# Altium footprint library CloudTainer.PcbLib: 17 footprints (part 1 of 2)
Each footprint in its own frame and in the unit in brackets; x right, y up, seen from the top. Pads: shape width x height; smd on the part's side, far side on the other; paste and mask are expansions set on the pad; w line width, h text height; cw(c..) or ccw(c..) is an arc to the next point about the centre after c.
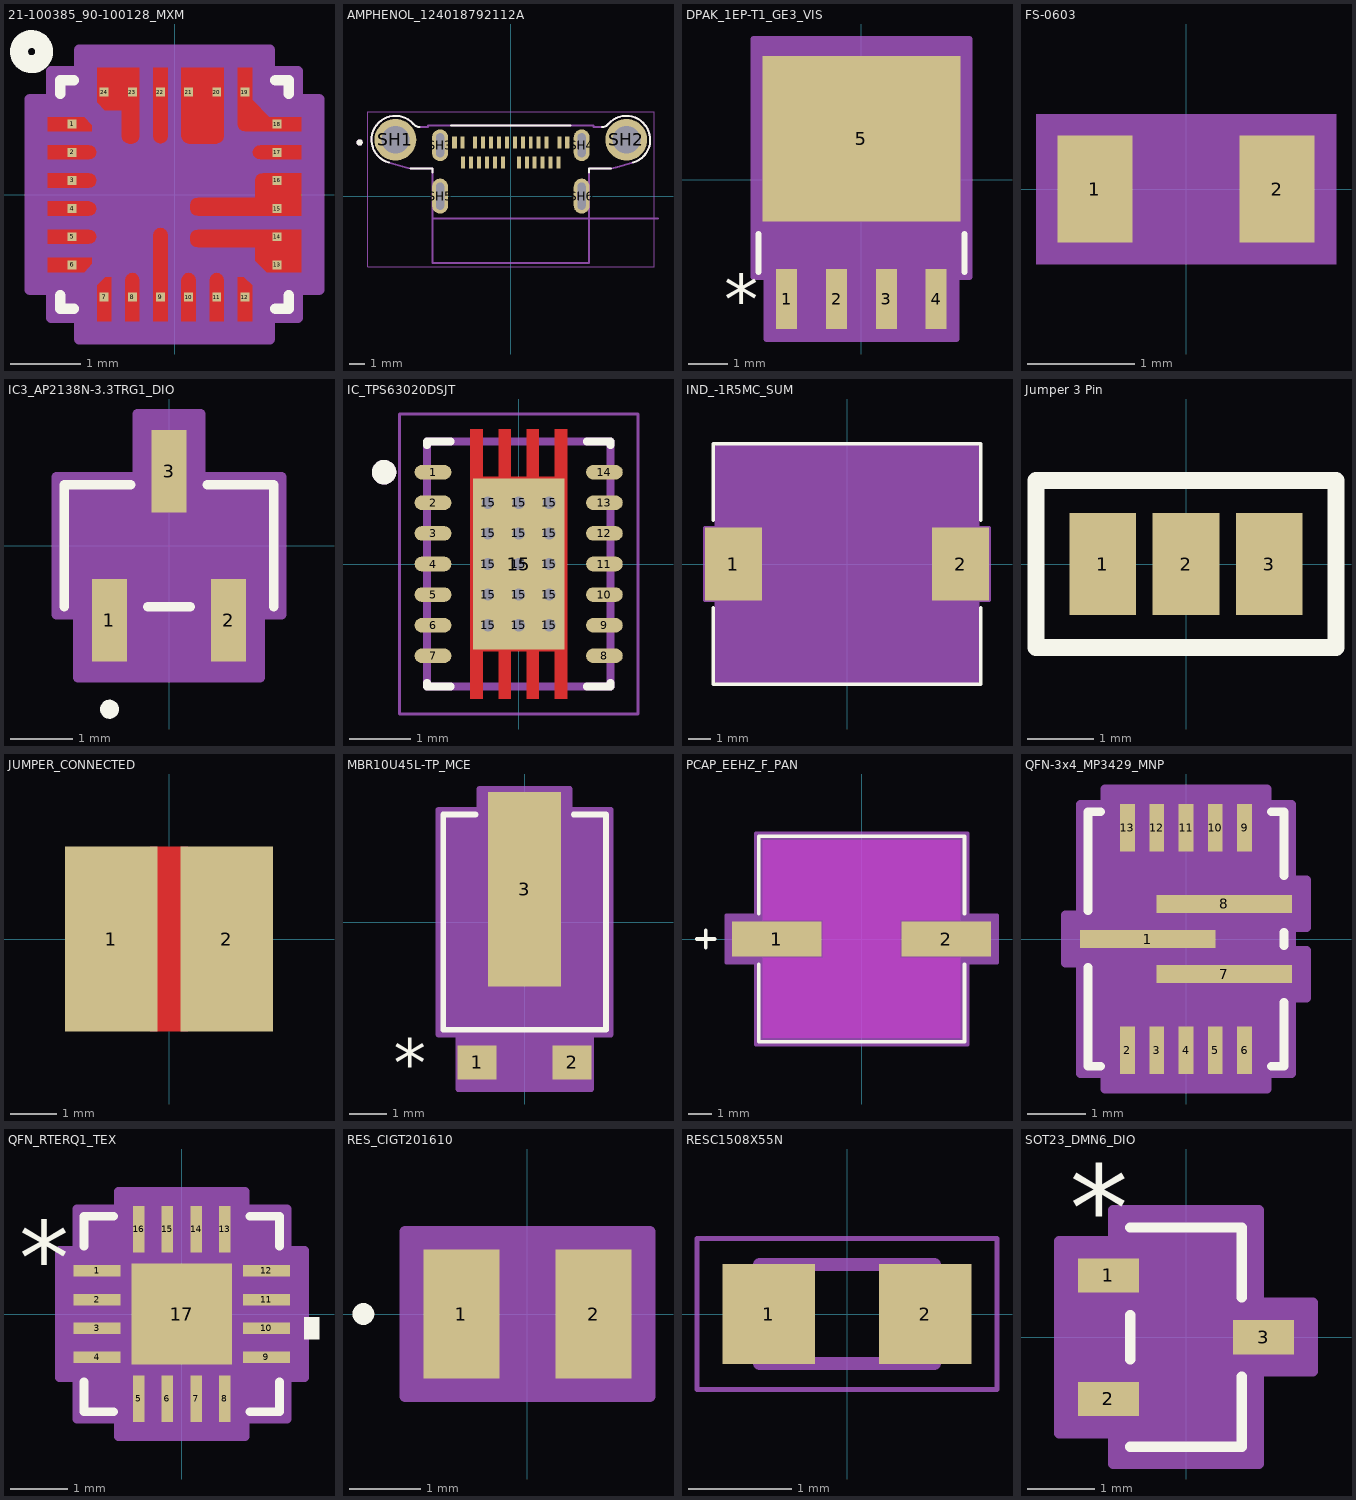
[diagram p0: the footprints below, top view; thin cyan lines are the x and y axes]

## 21-100385_90-100128_MXM [mil]
pads (24):
  rect 5x5 smd paste-2.5 mask-2.5: 1(-57.36,39.37) 2(-57.36,23.62) 3(-57.36,7.87) 4(-57.36,-7.87) 5(-57.36,-23.62) 6(-57.36,-39.37) 7(-39.37,-57.36) 8(-23.62,-57.36) 9(-7.87,-57.36) 10(7.87,-57.36) 11(23.62,-57.36) 12(39.37,-57.36) 13(57.36,-39.37) 14(57.36,-23.62) 15(57.36,-7.87) 16(57.36,7.87) 17(57.36,23.62) 18(57.36,39.37) 19(39.37,57.36) 20(23.62,57.36) 21(7.87,57.36) 22(-7.87,57.36) 23(-23.62,57.36) 24(-39.37,57.36)
Top Layer:
  region: -70.86,-35.37 -46.26,-35.37 -46.26,-38.83 -50.67,-43.37 -70.86,-43.37
  region: 35.37,43.86 35.37,70.86 43.37,70.86 43.37,53.15 53.15,43.37 70.86,43.37 70.86,35.37 43.86,35.37 39.41,35.37 37.88,35.67 36.59,36.54 35.72,37.84 35.41,39.37
  region: 49.26,11.87 70.86,11.87 70.86,-11.87 12.88,-11.87 11.35,-11.57 10.05,-10.7 9.18,-9.4 8.88,-7.87 8.88,-5.87 9.18,-4.34 10.05,-3.04 11.35,-2.17 12.88,-1.87 45.27,-1.87 45.26,7.87 45.56,9.4 46.43,10.7 47.73,11.57
  region: 51.65,-43.37 70.86,-43.37 70.86,-19.62 12.88,-19.62 11.35,-19.93 10.05,-20.79 9.18,-22.09 8.88,-23.62 8.88,-25.63 9.18,-27.16 10.05,-28.46 11.35,-29.33 12.88,-29.63 45.27,-29.62 45.27,-36.99
  region: -43.37,51.65 -43.37,70.86 -19.62,70.86 -19.62,32.56 -19.93,31.03 -20.79,29.73 -22.09,28.87 -23.62,28.56 -25.63,28.56 -27.16,28.87 -28.46,29.73 -29.33,31.03 -29.63,32.56 -29.62,47.24 -38.96,47.24
  region: 3.87,32.56 3.87,70.86 27.62,70.86 27.62,32.56 27.32,31.03 26.45,29.73 25.15,28.87 23.62,28.56 7.87,28.56 6.34,28.87 5.05,29.73 4.18,31.03
  region: 47.88,19.62 70.86,19.62 70.86,27.62 47.88,27.62 46.35,27.32 45.05,26.45 44.18,25.15 43.88,23.62 44.18,22.09 45.05,20.79 46.35,19.93
  region: -47.88,-19.62 -70.86,-19.62 -70.86,-27.62 -47.88,-27.62 -46.35,-27.32 -45.05,-26.45 -44.18,-25.15 -43.88,-23.62 -44.18,-22.09 -45.05,-20.79 -46.35,-19.93
  region: -47.88,-3.87 -70.86,-3.87 -70.86,-11.87 -47.88,-11.87 -46.35,-11.57 -45.05,-10.7 -44.18,-9.4 -43.88,-7.87 -44.18,-6.34 -45.05,-5.05 -46.35,-4.18
  region: -47.88,11.87 -70.86,11.87 -70.86,3.87 -47.88,3.87 -46.35,4.18 -45.05,5.05 -44.18,6.34 -43.88,7.87 -44.18,9.4 -45.05,10.7 -46.35,11.57
  region: -47.88,27.62 -70.86,27.62 -70.86,19.62 -47.88,19.62 -46.35,19.93 -45.05,20.79 -44.18,22.09 -43.88,23.62 -44.18,25.15 -45.05,26.45 -46.35,27.32
  region: -35.37,-70.86 -35.37,-46.26 -38.83,-46.26 -43.37,-50.67 -43.37,-70.86
  region: -70.86,35.37 -46.26,35.37 -46.26,38.83 -50.67,43.37 -70.86,43.37
  region: 35.37,-70.86 35.37,-46.26 38.83,-46.26 43.37,-50.67 43.37,-70.86
  region: -70.86,-35.37 -46.26,-35.37 -46.26,-38.83 -50.67,-43.37 -70.86,-43.37
  region: -3.87,32.56 -3.87,70.86 -11.87,70.86 -11.87,32.56 -11.57,31.03 -10.7,29.73 -9.4,28.87 -7.87,28.56 -6.34,28.87 -5.05,29.73 -4.18,31.03
  region: -11.87,-22.68 -11.87,-70.86 -3.87,-70.86 -3.87,-22.68 -4.18,-21.15 -5.05,-19.85 -6.34,-18.99 -7.87,-18.68 -9.4,-18.99 -10.7,-19.85 -11.57,-21.15
  region: 19.62,-47.88 19.62,-70.86 27.62,-70.86 27.62,-47.88 27.32,-46.35 26.45,-45.05 25.15,-44.18 23.62,-43.88 22.09,-44.18 20.79,-45.05 19.93,-46.35
  region: 3.87,-47.88 3.87,-70.86 11.87,-70.86 11.87,-47.88 11.57,-46.35 10.7,-45.05 9.4,-44.18 7.87,-43.88 6.34,-44.18 5.05,-45.05 4.18,-46.35
  region: -27.62,-47.88 -27.62,-70.86 -19.62,-70.86 -19.62,-47.88 -19.93,-46.35 -20.79,-45.05 -22.09,-44.18 -23.62,-43.88 -25.15,-44.18 -26.45,-45.05 -27.32,-46.35
Top Overlay:
  circle w10: c-80,80 r7.07
  lines w6: -64,-56.47 -64,-64 -56.47,-64 ; -64,56.47 -64,64 -56.47,64 ; 56.47,-64 64,-64 64,-56.47 ; 56.47,64 64,64 64,56.47
Top Paste:
  drawing of 19 lines, arcs and shapes, not listed
Top Solder:
  drawing of 19 lines, arcs and shapes, not listed
Mechanical 13:
  lines w1: -59,9 -9,59 ; -59,-59 -59,59 59,59 59,-59 -59,-59
Mechanical 15:
  region: 53.37,80.86 -53.37,80.86 -53.37,69 -69,69 -69,53.37 -80.86,53.37 -80.86,-53.37 -69,-53.37 -69,-69 -53.37,-69 -53.37,-80.86 53.37,-80.86 53.37,-69 69,-69 69,-53.37 80.86,-53.37 80.86,53.37 69,53.37 69,69 53.37,69
  lines w6: -80.86,-53.37 -69,-53.37 -69,-69 -53.37,-69 -53.37,-80.86 53.37,-80.86 53.37,-69 69,-69 69,-53.37 80.86,-53.37 80.86,53.37 69,53.37 69,69 53.37,69 53.37,80.86 -53.37,80.86 -53.37,69 -69,69 -69,53.37 -80.86,53.37 -80.86,-53.37
3D body "MAXIM_90-100128.step": height 23.66, standoff 0, extent -61.43,-61.43 60.94,60.94

## AMPHENOL_124018792112A [mm]
pads (32):
  rect 0.25x0.75 smd: A1(-3.05,3.375) A2(-2.25,3.375) A3(-1.75,3.375) A4(-1.25,3.375) A5(-0.75,3.375) A6(-0.25,3.375) A7(0.25,3.375) A8(0.75,3.375) A9(1.25,3.375) A10(1.75,3.375) A11(2.25,3.375) A12(3.05,3.375) B1(3,2.125) B2(2.5,2.125) B3(2,2.125) B4(1.5,2.125) B5(1,2.125) B6(0.5,2.125) B7(-0.5,2.125) B8(-1,2.125) B9(-1.5,2.125) B10(-2,2.125) B11(-2.5,2.125) B12(-3,2.125)
  round 2.625 hole 1.75: SH1(-7.26,3.55) SH2(7.26,3.55)
  oval 1x2 hole 0.5 slot 1.5 at 90 deg: SH3(-4.45,3.2) SH4(4.45,3.2)
  oval 1x2.2 hole 0.5 slot 1.7 at 90 deg: SH5(-4.45,0) SH6(4.45,0)
  rect 0.3x0.75 smd: SH7(-3.55,3.375) SH8(3.55,3.375)
Top Overlay:
  circle w0.2: c-9.51,3.375 r0.1
  lines w0.127: -7.673,2.108 cw(c-7.26,3.55) -6.128,4.534 ; -6.3,1.75 -4.925,1.75 -4.925,1.5 ; -6.117,4.522 ccw(c-5.74,4.85) -5.74,4.35 ; -3.75,4.45 3.75,4.45 ; 4.925,1.5 4.925,1.75 6.3,1.75 ; 5.74,4.35 ccw(c5.74,4.85) 6.117,4.522 ; 6.128,4.534 cw(c7.26,3.55) 7.673,2.108
Mechanical 13:
  circle w0.2: c-9.51,3.375 r0.1
  lines w0.127: -7.685,2.111 -6.599,1.791 ; -7.673,2.108 cw(c-7.26,3.55) -6.128,4.534 ; -6.591,1.789 ccw(c-6.316,2.75) -6.316,1.75 -4.925,1.75 -4.925,-4.2 4.925,-4.2 4.925,1.75 6.316,1.75 ccw(c6.316,2.75) 6.591,1.789 ; -6.117,4.522 ccw(c-5.74,4.85) -5.74,4.35 -5.205,4.35 -5.205,4.45 5.205,4.45 5.205,4.35 5.74,4.35 ccw(c5.74,4.85) 6.117,4.522 ; -4.925,-1.4 9.25,-1.4 ; -2.865,-4.2 2.865,-4.2 ; 6.128,4.534 cw(c7.26,3.55) 7.673,2.108 ; 6.599,1.791 7.685,2.111
  text "PCB Edge" at 5.4,-1.2 h0.9
Mechanical 15:
  lines w0.05: -9.01,-4.45 9.01,-4.45 9.01,5.3 -9.01,5.3 -9.01,-4.45
3D body "step_temp.STEP": height 3.53, standoff -0.53, extent -8.759,-4.2 8.759,5.047

## DPAK_1EP-T1_GE3_VIS [mil]
pads (5):
  rect 21x60 smd paste+0 mask+0: 1(-75,-120) 2(-25,-120) 3(25,-120) 4(75,-120)
  rect 199x166.19 smd paste+0 mask+0: 5(0,40.91)
Top Overlay:
  lines w6: -103.5,-93 -103.5,-54.66 ; 103.5,-93 103.5,-54.66
  text "*" at -137.5,-145 h50
Mechanical 13:
  lines w1: -98.5,-88 98.5,-88 98.5,88 -98.5,88 -98.5,-88 ; -84.5,-136 -84.5,-88 -65.5,-88 -65.5,-136 -84.5,-136 ; -34.5,-136 -34.5,-88 -15.5,-88 -15.5,-136 -34.5,-136 ; 15.5,-136 15.5,-88 34.5,-88 34.5,-136 15.5,-136 ; 65.5,-136 65.5,-88 84.5,-88 84.5,-136 65.5,-136
  text "*" at -87.5,-103 h50
Mechanical 15:
  region: -108.5,-98 -108.5,98 -108.5,141 108.5,141 108.5,98 108.5,-98 95.5,-98 95.5,-160 -95.5,-160 -95.5,-98
  lines w6: -108.5,-98 -108.5,98 -108.5,141 108.5,141 108.5,98 108.5,-98 95.5,-98 95.5,-160 -95.5,-160 -95.5,-98 -108.5,-98
3D body "DPAK_1EP-T1_GE3_VIS.step": height 47.63, standoff 0.5, extent -98.5,-135.98 98.5,110

## FS-0603 [mm]
pads (2):
  rect 0.7x1 smd: 1(-0.85,0) 2(0.85,0)
Mechanical 19:
  text "1" at -0.85,0.08 h0.2
  text "2" at 0.85,0.08 h0.2
Top Assembly:
  dashed: -1.4,-0.7 -1.4,0.7 1.4,0.7 1.4,-0.7
  pour cut-out: 1.2,-0.5 -1.2,-0.5 -1.2,0.5 1.2,0.5
3D body "FS-0603.stp": height 0.86, standoff 0, extent -0.8,-0.43 0.8,0.43

## IC3_AP2138N-3.3TRG1_DIO [mil]
pads (3):
  rect 22x52 smd paste+0 mask+0: 1(-37.5,-47) 2(37.5,-47) 3(0,47)
Top Overlay:
  circle w6: c-37.5,-103 r3
  lines w6: -66,-38.5 -66,38.5 -24.1,38.5 ; -13.4,-38.5 13.4,-38.5 ; 24.1,38.5 66,38.5 66,-38.5
Mechanical 13:
  circle w0: c-37.5,-23.5 r3
  lines w1: -61,-33.5 61,-33.5 61,33.5 -61,33.5 -61,-33.5 ; -47.5,-59 -47.5,-33.5 -27.5,-33.5 -27.5,-59 -47.5,-59 ; -10,33.5 10,33.5 10,59 -10,59 -10,33.5 ; 27.5,-59 27.5,-33.5 47.5,-33.5 47.5,-59 27.5,-59
Mechanical 15:
  region: -71,-43.5 -71,43.5 -20,43.5 -20,83 20,83 20,43.5 71,43.5 71,-43.5 57.5,-43.5 57.5,-83 -57.5,-83 -57.5,-43.5
  lines w6: -71,-43.5 -71,43.5 -20,43.5 -20,83 20,83 20,43.5 71,43.5 71,-43.5 57.5,-43.5 57.5,-83 -57.5,-83 -57.5,-43.5 -71,-43.5
3D body "IC3_AP2138N-33TRG1_DIO.step": height 57.09, standoff 0, extent -60.98,-59.02 60.98,59.02

## IC_TPS63020DSJT [mm]
pads (30):
  oval 0.6x0.24 smd mask+0: 1(-1.4,1.5) 2(-1.4,1) 3(-1.4,0.5) 4(-1.4,0) 5(-1.4,-0.5) 6(-1.4,-1) 7(-1.4,-1.5) 8(1.4,-1.5) 9(1.4,-1) 10(1.4,-0.5) 11(1.4,0) 12(1.4,0.5) 13(1.4,1) 14(1.4,1.5)
  round 0.3 hole 0.2: 15(-0.5,-1) 15(-0.5,-0.5) 15(-0.5,0) 15(-0.5,0.5) 15(-0.5,1) 15(0,-1) 15(0,-0.5) 15(0,0) 15(0,0.5) 15(0,1) 15(0.5,-1) 15(0.5,-0.5) 15(0.5,0) 15(0.5,0.5) 15(0.5,1)
  rect 1.5x2.8 smd paste-2 mask+0: 15(0,0)
Top Layer:
  region: 0.79,-2.2 0.59,-2.2 0.59,-1.425 0.33,-1.425 0.33,-2.2 0.13,-2.2 0.13,-1.425 -0.13,-1.425 -0.13,-2.2 -0.33,-2.2 -0.33,-1.425 -0.59,-1.425 -0.59,-2.2 -0.79,-2.2 -0.79,2.2 -0.59,2.2 -0.59,1.425 -0.33,1.425 -0.33,2.2 -0.13,2.2 -0.13,1.425 0.13,1.425 0.13,2.2 0.33,2.2 0.33,1.425 0.59,1.425 0.59,2.2 0.79,2.2
Top Overlay:
  circle w0.2: c-2.2,1.5 r0.1
  lines w0.127: -1.5,-1.94 -1.5,-2 -1.11,-2 ; -1.5,1.94 -1.5,2 -1.11,2 ; 1.11,-2 1.5,-2 1.5,-1.94 ; 1.11,2 1.5,2 1.5,1.94
Top Paste:
  region: -0.13,-2.2 -0.33,-2.2 -0.33,-1.35 -0.59,-1.35 -0.59,-2.2 -0.79,-2.2 -0.79,-0.1 -0.13,-0.1
  region: 0.79,-2.2 0.59,-2.2 0.59,-1.35 0.33,-1.35 0.33,-2.2 0.13,-2.2 0.13,-0.1 0.79,-0.1
  region: 0.79,0.1 0.13,0.1 0.13,2.2 0.33,2.2 0.33,1.35 0.59,1.35 0.59,2.2 0.79,2.2
  region: -0.13,0.1 -0.79,0.1 -0.79,2.2 -0.59,2.2 -0.59,1.35 -0.33,1.35 -0.33,2.2 -0.13,2.2
Top Solder:
  drawing of 15 lines, arcs and shapes, not listed
Mechanical 13:
  circle w0.2: c-2.2,1.5 r0.1
  lines w0.127: -1.5,-2 -1.5,2 1.5,2 1.5,-2 -1.5,-2
Mechanical 15:
  lines w0.05: -1.95,-2.45 -1.95,2.45 1.95,2.45 1.95,-2.45 -1.95,-2.45
3D body "DSJ0014A.stp": height 1, standoff 0, extent -1.5,-2 1.5,2

## IND_-1R5MC_SUM [mil]
pads (2):
  rect 98.5x126 smd paste+0 mask+0: 1(-196.75,0) 2(196.75,0)
Top Overlay:
  lines w6: -231.5,-76.1 -231.5,-208 231.5,-208 231.5,-76.1 ; -231.5,76.1 -231.5,208 231.5,208 231.5,76.1
Mechanical 13:
  lines w1: -226.5,-203 226.5,-203 226.5,203 -226.5,203 -226.5,-203
Mechanical 15:
  region: -226.5,-63 -246,-63 -246,63 -226.5,63 -226.5,203 226.5,203 226.5,63 246,63 246,-63 226.5,-63 226.5,-203 -226.5,-203
  lines w6: -246,-63 -246,63 -226.5,63 -226.5,203 226.5,203 226.5,63 246,63 246,-63 226.5,-63 226.5,-203 -226.5,-203 -226.5,-63 -246,-63
3D body "IND_-1R5MC_SUM.step": height 157.01, standoff 0, extent -226.5,-203.11 226.5,203.11

## Jumper 3 Pin [mm]
pads (3):
  rect 1x1.524 smd: 1(-1.25,0) 2(0,0) 3(1.25,0)
Top Overlay:
  lines w0.254: -2.25,-1.25 2.25,-1.25 2.25,1.25 -2.25,1.25 -2.25,-1.25

## JUMPER_CONNECTED [mm]
pads (2):
  rect 2x4 smd mask+0.102: 1(-1.25,0) 2(1.25,0)
Top Layer:
  lines w4: -0.25,0 0.25,0

## MBR10U45L-TP_MCE [mil]
pads (3):
  rect 41x36 smd paste+0 mask+0: 1(-50,-147.57) 2(50,-147.57)
  rect 77x205 smd paste+0 mask+0: 3(0,34.64)
Top Overlay:
  lines w6: -51.6,113.27 -85.71,113.27 -85.71,-113.27 85.71,-113.27 85.71,113.27 51.6,113.27
  text "*" at -137.5,-172.57 h50
Mechanical 13:
  lines w1: -80.71,-108.27 -80.71,108.27 80.71,108.27 80.71,-108.27 -80.71,-108.27 ; -69.5,-151.57 -30.5,-151.57 -30.5,-108.27 -69.5,-108.27 -69.5,-151.57 ; 30.5,-151.57 69.5,-151.57 69.5,-108.27 30.5,-108.27 30.5,-151.57
  text "*" at -62.5,-123.27 h50
Mechanical 15:
  region: -90.71,-118.27 -90.71,118.27 -47.5,118.27 -47.5,140.14 47.5,140.14 47.5,118.27 90.71,118.27 90.71,-118.27 70,-118.27 70,-175.57 -70,-175.57 -70,-118.27
  lines w6: -90.71,-118.27 -70,-118.27 -70,-175.57 70,-175.57 70,-118.27 90.71,-118.27 90.71,118.27 47.5,118.27 47.5,140.14 -47.5,140.14 -47.5,118.27 -90.71,118.27 -90.71,-118.27
3D body "MBR10U45L-TP_MCE.step": height 67.09, standoff -2.01, extent -80.71,-151.57 80.71,116.14

## PCAP_EEHZ_F_PAN [mil]
pads (2):
  rect 150x59 smd paste+0 mask+0: 1(-142,0) 2(142,0)
Top Layer keep-out:
  region: -65,-31.5 -65,31.5 65,31.5 65,-31.5
  region: -165.5,31.5 -165.5,165.5 165.5,165.5 165.5,31.5
  region: -165.5,-165.5 -165.5,-31.5 165.5,-31.5 165.5,-165.5
Top Overlay:
  lines w6: -276,0 -246,0 ; -261,-15 -261,15 ; -172.5,-42.6 -172.5,-172.5 172.5,-172.5 172.5,-42.6 ; -172.5,42.6 -172.5,172.5 172.5,172.5 172.5,42.6
Keep-Out Layer:
  region: -65,-31.5 -65,31.5 65,31.5 65,-31.5
Mechanical 13:
  lines w1: -276,0 -246,0 ; -261,-15 -261,15 ; -167.5,-83.75 -83.75,-167.5 ; -167.5,83.75 -83.75,167.5 ; -167.5,-167.5 167.5,-167.5 167.5,167.5 -167.5,167.5 -167.5,-167.5
Mechanical 15:
  region: -177.5,-39.5 -227,-39.5 -227,39.5 -177.5,39.5 -177.5,177.5 177.5,177.5 177.5,39.5 227,39.5 227,-39.5 177.5,-39.5 177.5,-177.5 -177.5,-177.5
  lines w6: -227,-39.5 -227,39.5 -177.5,39.5 -177.5,177.5 177.5,177.5 177.5,39.5 227,39.5 227,-39.5 177.5,-39.5 177.5,-177.5 -177.5,-177.5 -177.5,-39.5 -227,-39.5
3D body "PCAP_EEHZ_F_PAN.step": height 415.12, standoff 0, extent -197.01,-167.48 197.01,167.48

## QFN-3x4_MP3429_MNP [mil]
pads (13):
  rect 91x12 smd paste+0 mask+0: 1(-25.59,0) 7(25.59,-23.62) 8(25.59,23.62)
  rect 10x32 smd paste+0 mask+0: 2(-39.37,-74.8) 3(-19.68,-74.8) 4(0,-74.8) 5(19.68,-74.8) 6(39.37,-74.8) 9(39.37,74.8) 10(19.68,74.8) 11(0,74.8) 12(-19.68,74.8) 13(-39.37,74.8)
Top Overlay:
  lines w6: -66,-19.1 -66,-85.5 -57.47,-85.5 ; -66,19.1 -66,85.5 -57.47,85.5 ; 57.47,-85.5 66,-85.5 66,-42.72 ; 57.47,85.5 66,85.5 66,42.72 ; 66,-4.52 66,4.52
Mechanical 13:
  lines w1: -61,30.5 -11,80.5 ; -61,-80.5 61,-80.5 61,80.5 -61,80.5 -61,-80.5
Mechanical 15:
  region: 81.09,-7.62 71,-7.62 71,7.62 81.09,7.62 81.09,39.62 71,39.62 71,90.5 54.37,90.5 54.37,100.8 -54.37,100.8 -54.37,90.5 -71,90.5 -71,16 -81.09,16 -81.09,-16 -71,-16 -71,-90.5 -54.37,-90.5 -54.37,-100.8 54.37,-100.8 54.37,-90.5 71,-90.5 71,-39.62 81.09,-39.62
  lines w6: -81.09,-16 -81.09,16 -71,16 -71,90.5 -54.37,90.5 -54.37,100.8 54.37,100.8 54.37,90.5 71,90.5 71,39.62 81.09,39.62 81.09,7.62 71,7.62 71,-7.62 81.09,-7.62 81.09,-39.62 71,-39.62 71,-90.5 54.37,-90.5 54.37,-100.8 -54.37,-100.8 -54.37,-90.5 -71,-90.5 -71,-16 -81.09,-16
3D body "MP3429GL.step": height 33.96, standoff 0.5, extent -59.02,-78.74 59.09,78.74

## QFN_RTERQ1_TEX [mil]
pads (17):
  rect 32x8 smd paste+0 mask+0: 1(-58,29.54) 2(-58,9.85) 3(-58,-9.85) 4(-58,-29.54) 9(58,-29.54) 10(58,-9.85) 11(58,9.85) 12(58,29.54)
  rect 8x32 smd paste+0 mask+0: 5(-29.54,-58) 6(-9.85,-58) 7(9.85,-58) 8(29.54,-58) 13(29.54,58) 14(9.85,58) 15(-9.85,58) 16(-29.54,58)
  rect 69x69 smd paste+0 mask+0: 17(0,0)
Top Overlay:
  region: 84,-2.35 94,-2.35 94,-17.34 84,-17.34
  lines w6: -67,-46.63 -67,-67 -46.63,-67 ; -67,46.63 -67,67 -46.63,67 ; 46.63,-67 67,-67 67,-46.63 ; 46.63,67 67,67 67,46.63
  text "*" at -111.5,14.38 h50
Mechanical 13:
  lines w1: -62,12 -12,62 ; -62,-62 62,-62 62,62 -62,62 -62,-62 ; -62,-35.53 -62,-23.54 -62,-35.53 ; -62,-15.85 -62,-3.85 -62,-15.85 ; -62,3.85 -62,15.85 -62,3.85 ; -62,23.54 -62,35.53 -62,23.54 ; -35.53,-62 -23.54,-62 -35.53,-62 ; -35.53,62 -23.54,62 -35.53,62 ; -15.85,-62 -3.85,-62 -15.85,-62 ; -15.85,62 -3.85,62 -15.85,62 ; 3.85,-62 15.85,-62 3.85,-62 ; 3.85,62 15.85,62 3.85,62 ; 23.54,-62 35.53,-62 23.54,-62 ; 23.54,62 35.53,62 23.54,62 ; 62,-35.53 62,-23.54 62,-35.53 ; 62,-15.85 62,-3.85 62,-15.85 ; 62,3.85 62,15.85 62,3.85 ; 62,23.54 62,35.53 62,23.54
  text "*" at -54.5,14.38 h50
Mechanical 15:
  region: -43.53,-72 -72,-72 -72,-43.53 -84,-43.53 -84,43.53 -72,43.53 -72,72 -43.53,72 -43.53,84 43.53,84 43.53,72 72,72 72,43.53 84,43.53 84,-43.53 72,-43.53 72,-72 43.53,-72 43.53,-84 -43.53,-84
  lines w6: -84,-43.53 -72,-43.53 -72,-72 -43.53,-72 -43.53,-84 43.53,-84 43.53,-72 72,-72 72,-43.53 84,-43.53 84,43.53 72,43.53 72,72 43.53,72 43.53,84 -43.53,84 -43.53,72 -72,72 -72,43.53 -84,43.53 -84,-43.53
3D body "QFN_RTERQ1_TEX.step": height 32.09, standoff 0, extent -62.01,-62.01 62.01,62.01

## RES_CIGT201610 [mil]
pads (2):
  rect 42x71 smd paste+0 mask+0: 1(-36.5,0) 2(36.5,0)
Top Overlay:
  circle w6: c-90.5,0 r3
Mechanical 15:
  region: 67.5,-45.5 -67.5,-45.5 -67.5,45.5 67.5,45.5
  lines w6: -67.5,-45.5 67.5,-45.5 67.5,45.5 -67.5,45.5 -67.5,-45.5
3D body "RES_CIGT201610.step": height 39.02, standoff 0, extent -43.5,-35.51 43.5,35.51

## RESC1508X55N [mm]
pads (2):
  rect 0.9x0.97 smd: 1(-0.76,0) 2(0.76,0)
Mechanical 13:
  lines w0.127: -0.85,-0.48 -0.85,0.48 0.85,0.48 0.85,-0.48 -0.85,-0.48
Mechanical 15:
  lines w0.05: -1.46,-0.735 -1.46,0.735 1.46,0.735 1.46,-0.735 -1.46,-0.735
3D body "0603.step": height 0.45, standoff 0, extent -0.8,-0.4 0.8,0.4

## SOT23_DMN6_DIO [mil]
pads (3):
  rect 35.5x20 smd paste+0 mask+0: 1(-45.25,36.02) 2(-45.25,-36.02) 3(45.25,0)
Top Overlay:
  lines w6: -32.5,-64 32.5,-64 32.5,-23.1 ; -32.5,-12.92 -32.5,12.92 ; -32.5,64 32.5,64 32.5,23.1
  text "*" at -67.75,51.02 h50
Mechanical 13:
  lines w0: -12,59 ccw(c0,59) 12,59
  lines w1: -49,-46.02 -27.5,-46.02 -27.5,-26.02 -49,-26.02 -49,-46.02 ; -49,26.02 -27.5,26.02 -27.5,46.02 -49,46.02 -49,26.02 ; -27.5,-59 -27.5,59 27.5,59 27.5,-59 -27.5,-59 ; 27.5,-10 49,-10 49,10 27.5,10 27.5,-10
  text "*" at -30,8.02 h50
Mechanical 15:
  region: 42.5,-74 -42.5,-74 -42.5,-56.02 -74,-56.02 -74,56.02 -42.5,56.02 -42.5,74 42.5,74 42.5,20 74,20 74,-20 42.5,-20
  lines w6: -74,-56.02 -74,56.02 -42.5,56.02 -42.5,74 42.5,74 42.5,20 74,20 74,-20 42.5,-20 42.5,-74 -42.5,-74 -42.5,-56.02 -74,-56.02
3D body "SOT23_DMN6_DIO.step": height 43.11, standoff 0, extent -49.02,-59.02 49.02,59.02